# EAGLE library part 74F1803 (library A3660)
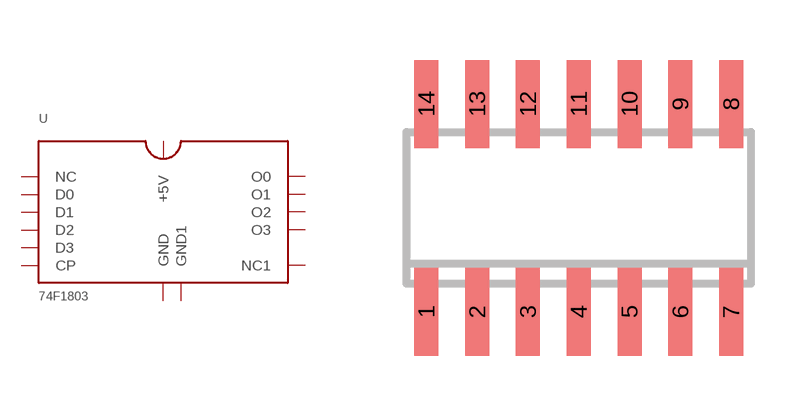
[diagram p9: symbol with the pads of 74F1803; footprint 74F1803]

Designator prefix -

## 74F1803  [74F1803]
1  GND
2  NC
3  O0
4  D0
5  D1
6  O1
7  GND1
8  CP
9  O2
10  D2
11  D3
12  O3
13  NC1
14  +5V  pwr

## Footprint 74F1803 (pad centres in mm)
smd 0.6 x 2.2: 1 -3.175,-2.6; 2 -1.905,-2.6; 3 -0.635,-2.6; 4 0.635,-2.6; 5 1.905,-2.6; 6 3.175,-2.6; 7 4.445,-2.6; 8 4.445,2.6; 9 3.175,2.6; 10 1.905,2.6; 11 0.635,2.6; 12 -0.635,2.6; 13 -1.905,2.6; 14 -3.175,2.6